# Altium footprint library MOLEX_387207504.PcbLib: 1 footprints
Each footprint in its own frame and in the unit in brackets; x right, y up, seen from the top. Pads: shape width x height; smd on the part's side, far side on the other; paste and mask are expansions set on the pad; w line width, h text height; cw(c..) or ccw(c..) is an arc to the next point about the centre after c.
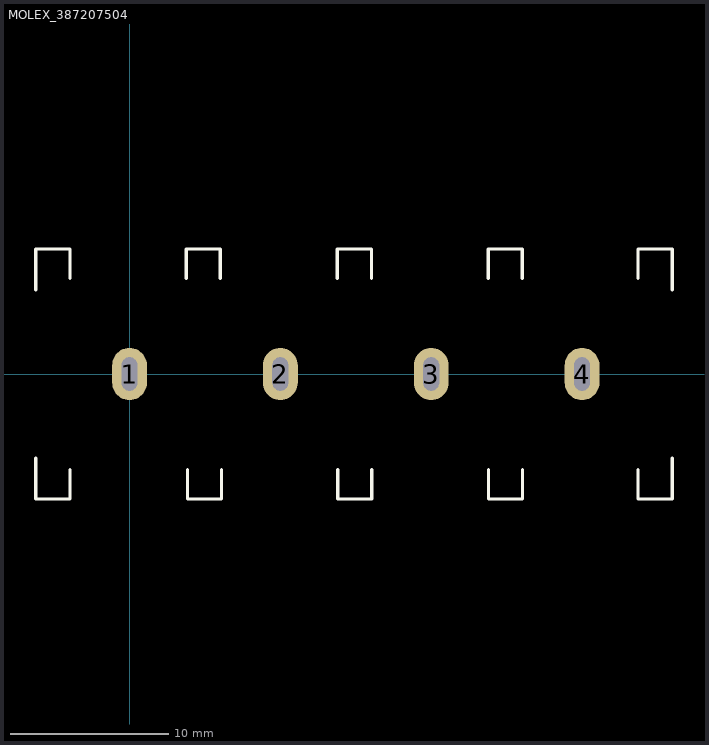
[diagram p0: the footprint, top view; thin cyan lines are the x and y axes]

## MOLEX_387207504 [mm]
pads (4):
  oval 2.2x3.3 hole 2.1 slot 1 at 0 deg: 1(0,0) 2(9.53,0) 3(19.06,0) 4(28.59,0)
Top Overlay:
  lines w0.2: -5.92,-5.3 -5.92,-7.9 -3.77,-7.9 -3.77,-6.05 ; -5.92,5.3 -5.92,7.9 -3.77,7.9 -3.77,6.05 ; 3.58,6.05 3.58,7.9 5.73,7.9 5.73,6.05 ; 3.655,-6.05 3.655,-7.9 5.805,-7.9 5.805,-6.05 ; 13.13,6.05 13.13,7.9 15.28,7.9 15.28,6.05 ; 13.155,-6.05 13.155,-7.9 15.305,-7.9 15.305,-6.05 ; 22.664,6.05 22.664,7.9 24.814,7.9 24.814,6.05 ; 22.689,-6.05 22.689,-7.9 24.839,-7.9 24.839,-6.05 ; 32.137,-6.05 32.137,-7.9 34.287,-7.9 34.287,-5.3 ; 32.137,6.05 32.137,7.9 34.287,7.9 34.287,5.3
3D body "MOLEX_387207504.stp": height 16.76, standoff -4.83, extent -5.87,-7.9 34.262,7.848